# Altium schematic symbol library AltiumLibraries.SchLib: 486 symbols (part 3 of 3)
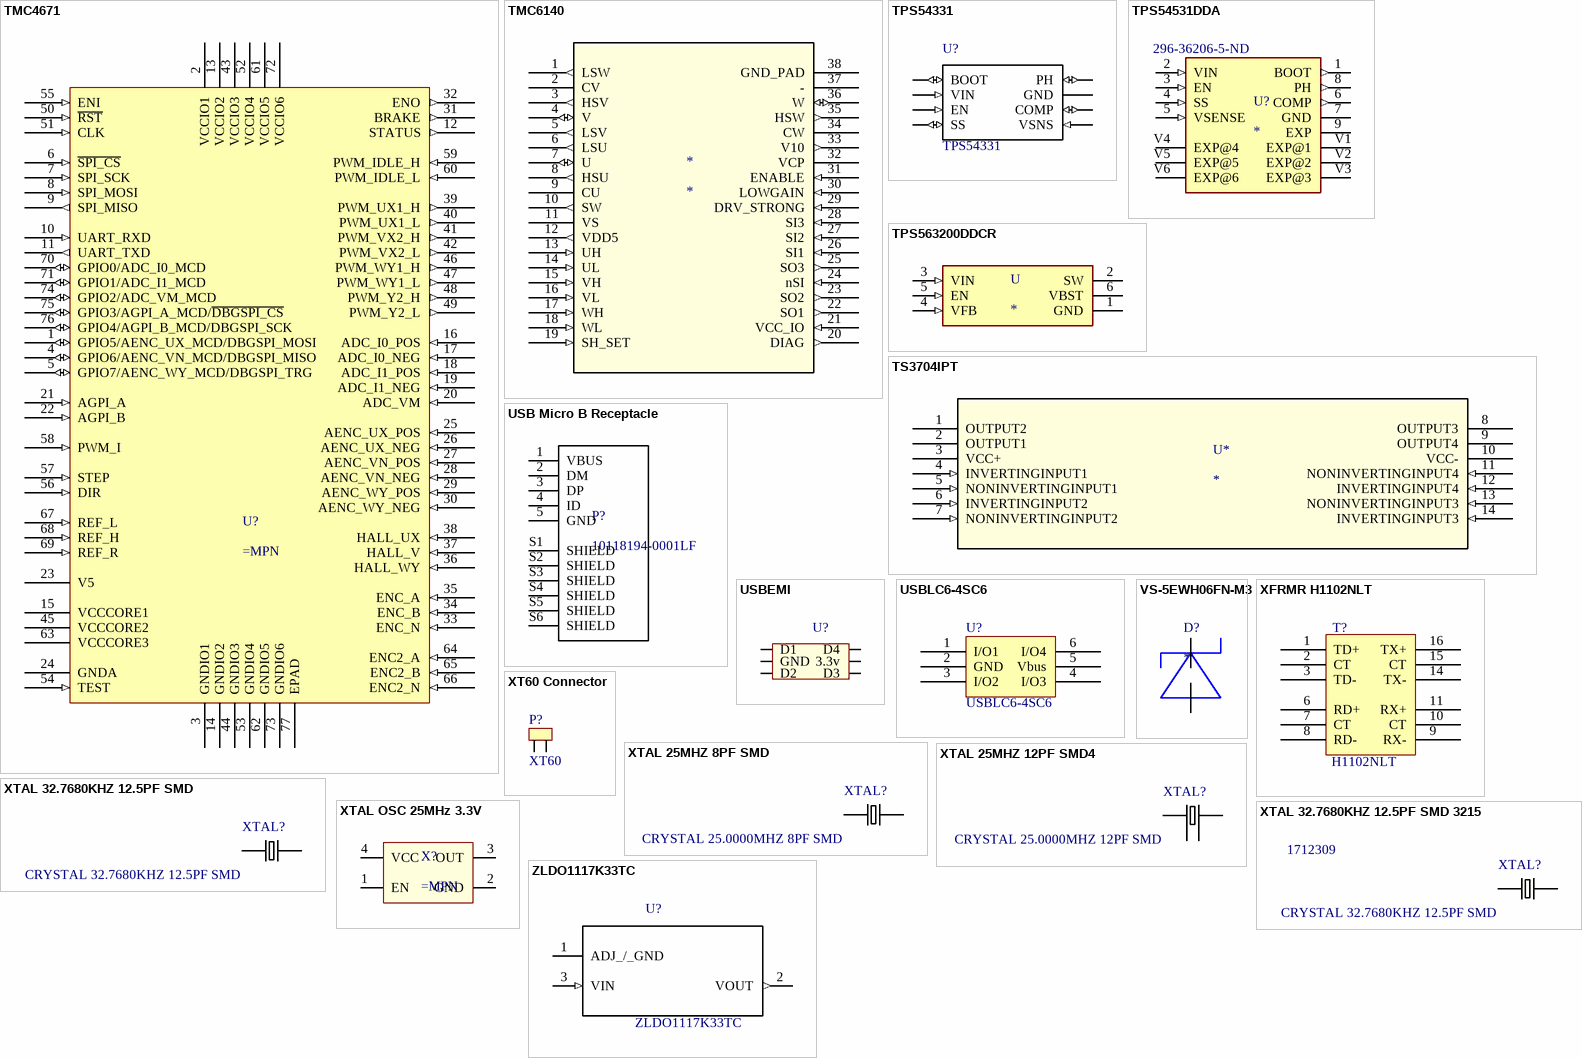
[diagram p14: symbols TMC4671 to ZLDO1117K33TC]

## XFRMR H1102NLT
designator T?, comment H1102NLT
Isolation and Data Interface (Encapsulated) Pulse Transformer 1:1 Transmitter, 1:1 Receiver Surface Mount; Digikey Link: https://www.digikey.ca/en/products/detail/pulse-electronics-network/H1102NL/1036940?s=N4IgTCBcDaIBIEYEAYwDkAyIC6BfIA; Supplier 1: Digi-Key; Supplier Part Number 1: 553-1323-5-ND
pins: 1 TD+, 2 CT, 3 TD-, 6 RD+, 7 CT, 8 RD-, 9 RX-, 10 CT, 11 RX+, 14 TX-, 15 CT, 16 TX+

## XT60 Connector
designator P?, comment XT60
XT60 CONNECTORS FEMALE PAIR; Digikey Link: https://www.digikey.ca/product-detail/en/sparkfun-electronics/PRT-10474/1568-1816-ND/8258064; Value: N/A; Supplier 1: Digi-Key; Supplier Part Number 1: 1568-1816-ND
pins: 1, 2

## XTAL 25MHZ 8PF SMD
designator XTAL?, comment CRYSTAL 25.0000MHZ 8PF SMD
25MHz ±50ppm Crystal 8pF 70 Ohms 2-SMD, No Lead; Digikey Link: https://www.digikey.ca/product-detail/en/ndk-america-inc/NX5032GA-25.000000MHZ-LN-CD-1/644-1041-1-ND/1128913; Supplier 1: Digi-Key; Supplier Part Number 1: 644-1041-1-ND
pins: 1, 2

## XTAL 25MHZ 12PF SMD4
designator XTAL?, comment CRYSTAL 25.0000MHZ 12PF SMD
25MHz ±10ppm Crystal 12pF 40 Ohms 2-SMD, No Lead; Supplier 1: Digi-Key
pins: 1, 2, 3, 4

## XTAL 32.7680KHZ 12.5PF SMD
designator XTAL?, comment CRYSTAL 32.7680KHZ 12.5PF SMD
32.768kHz ±20ppm Crystal 12.5pF 70 kOhms 2-SMD, No Lead; Digikey Link: https://www.digikey.ca/en/products/detail/ndk-america-inc/NX3215SA-32-768K-STD-MUA-8/2261469?s=N4IgTCBcDaIGwBYEFoCMqCsc3IHIBEQBdAXyA; Supplier 1: Digi-Key; Supplier Part Number 1: 644-1156-1-ND
pins: 1, 2

## XTAL 32.7680KHZ 12.5PF SMD 3215
designator XTAL?, comment CRYSTAL 32.7680KHZ 12.5PF SMD  Supplier Part Number 1: 1712309
32.768kHz ±20ppm Crystal 12.5pF 70 kOhms 3215SMD, No Lead; Supplier 1: RSComponents
pins: 1, 2

## XTAL OSC 25MHz 3.3V
designator X?
XTAL OSC XO 25.0MHZ CMOS SMD; Manufacturer: ECS International; Supplier 1: Digi-Key; Supplier Part Number 1: XC2830CT-ND
pins: 1 EN, 2 GND, 3 OUT, 4 VCC

## ZLDO1117K33TC
designator U?
Linear Voltage Regulator IC Positive Fixed 1 Output  1A TO-252-3; Digikey Link: https://www.digikey.ca/product-detail/en/diodes-incorporated/ZLDO1117K33TC/ZLDO1117K33DIDKR-ND/2095639; Supplier 1: Digi-Key; Supplier Part Number 1: ZLDO1117K33DICT-ND
pins: 1 ADJ_/_GND (power), 2 VOUT (out), 3 VIN (in)